# Altium footprint library 31_lib.PcbLib: 3 footprints
Each footprint in its own frame and in the unit in brackets; x right, y up, seen from the top. Pads: shape width x height; smd on the part's side, far side on the other; paste and mask are expansions set on the pad; w line width, h text height; cw(c..) or ccw(c..) is an arc to the next point about the centre after c.
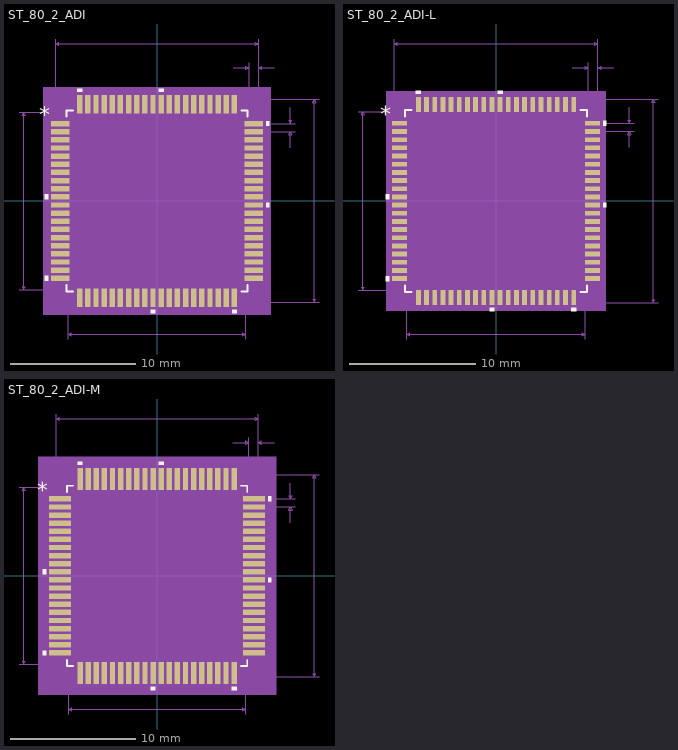
[diagram p0: the footprints below, top view; thin cyan lines are the x and y axes]

## ST_80_2_ADI [mm]
pads (80):
  rect 1.462x0.431 smd paste+0 mask+0: 1(-7.722,6.175) 2(-7.722,5.525) 3(-7.722,4.875) 4(-7.722,4.225) 5(-7.722,3.575) 6(-7.722,2.925) 7(-7.722,2.275) 8(-7.722,1.625) 9(-7.722,0.975) 10(-7.722,0.325) 11(-7.722,-0.325) 12(-7.722,-0.975) 13(-7.722,-1.625) 14(-7.722,-2.275) 15(-7.722,-2.925) 16(-7.722,-3.575) 17(-7.722,-4.225) 18(-7.722,-4.875) 19(-7.722,-5.525) 20(-7.722,-6.175) 41(7.722,-6.175) 42(7.722,-5.525) 43(7.722,-4.875) 44(7.722,-4.225) 45(7.722,-3.575) 46(7.722,-2.925) 47(7.722,-2.275) 48(7.722,-1.625) 49(7.722,-0.975) 50(7.722,-0.325) 51(7.722,0.325) 52(7.722,0.975) 53(7.722,1.625) 54(7.722,2.275) 55(7.722,2.925) 56(7.722,3.575) 57(7.722,4.225) 58(7.722,4.875) 59(7.722,5.525) 60(7.722,6.175)
  rect 0.431x1.462 smd paste+0 mask+0: 21(-6.175,-7.722) 22(-5.525,-7.722) 23(-4.875,-7.722) 24(-4.225,-7.722) 25(-3.575,-7.722) 26(-2.925,-7.722) 27(-2.275,-7.722) 28(-1.625,-7.722) 29(-0.975,-7.722) 30(-0.325,-7.722) 31(0.325,-7.722) 32(0.975,-7.722) 33(1.625,-7.722) 34(2.275,-7.722) 35(2.925,-7.722) 36(3.575,-7.722) 37(4.225,-7.722) 38(4.875,-7.722) 39(5.525,-7.722) 40(6.175,-7.722) 61(6.175,7.722) 62(5.525,7.722) 63(4.875,7.722) 64(4.225,7.722) 65(3.575,7.722) 66(2.925,7.722) 67(2.275,7.722) 68(1.625,7.722) 69(0.975,7.722) 70(0.325,7.722) 71(-0.325,7.722) 72(-0.975,7.722) 73(-1.625,7.722) 74(-2.275,7.722) 75(-2.925,7.722) 76(-3.575,7.722) 77(-4.225,7.722) 78(-4.875,7.722) 79(-5.525,7.722) 80(-6.175,7.722)
Top Overlay:
  region: -8.707,0.516 -8.961,0.516 -8.961,0.135 -8.707,0.135
  region: -8.707,-5.984 -8.961,-5.984 -8.961,-6.365 -8.707,-6.365
  region: -0.135,-8.707 -0.516,-8.707 -0.516,-8.961 -0.135,-8.961
  region: 6.365,-8.707 5.984,-8.707 5.984,-8.961 6.365,-8.961
  region: 8.707,-0.135 8.961,-0.135 8.961,-0.516 8.707,-0.516
  region: 8.707,6.365 8.961,6.365 8.961,5.984 8.707,5.984
  region: 0.516,8.707 0.135,8.707 0.135,8.961 0.516,8.961
  region: -5.984,8.707 -6.365,8.707 -6.365,8.961 -5.984,8.961
  lines w0.152: -7.226,-6.723 -7.226,-7.226 -6.723,-7.226 ; -7.226,6.723 -7.226,7.226 -6.723,7.226 ; 6.723,-7.226 7.226,-7.226 7.226,-6.723 ; 6.723,7.226 7.226,7.226 7.226,6.723
  text "*" at -9.405,6.246 h1.27
Mechanical 5:
  region: 9.088,-9.088 -9.088,-9.088 -9.088,9.088 9.088,9.088
Mechanical 7:
  lines w0.025: -11.024,-7.099 -6.175,-7.099 ; -11.024,7.099 -6.175,7.099 ; -8.103,6.175 -8.103,12.929 ; -7.099,-11.024 -7.099,-6.175 ; 6.071,10.643 7.341,10.643 ; 6.175,-8.103 12.929,-8.103 ; 6.175,8.103 12.929,8.103 ; 7.099,-11.024 7.099,-6.175 ; 7.341,6.175 7.341,11.024 ; 7.722,5.525 11.024,5.525 ; 7.722,6.175 11.024,6.175 ; 8.103,11.024 8.103,6.175 8.103,12.929 ; 9.373,10.643 8.103,10.643 ; 10.643,4.255 10.643,5.525 ; 10.643,7.445 10.643,6.175 ; -10.643,-7.099 -10.643,7.099 ; -10.643,-7.099 -10.77,-6.845 -10.516,-6.845 -10.643,-7.099 ; -10.643,7.099 -10.77,6.845 -10.516,6.845 -10.643,7.099 ; -8.103,12.548 8.103,12.548 ; -8.103,12.548 -7.849,12.675 -7.849,12.421 -8.103,12.548 ; -7.099,-10.643 7.099,-10.643 ; -7.099,-10.643 -6.845,-10.516 -6.845,-10.77 -7.099,-10.643 ; 7.099,-10.643 6.845,-10.516 6.845,-10.77 7.099,-10.643 ; 7.341,10.643 7.087,10.77 7.087,10.516 7.341,10.643 ; 8.103,10.643 8.357,10.77 8.357,10.516 8.103,10.643 ; 8.103,12.548 7.849,12.675 7.849,12.421 8.103,12.548 ; 10.643,5.525 10.516,5.271 10.77,5.271 10.643,5.525 ; 10.643,6.175 10.516,6.429 10.77,6.429 10.643,6.175 ; 12.548,-8.103 12.548,8.103 ; 12.548,-8.103 12.421,-7.849 12.675,-7.849 12.548,-8.103 ; 12.548,8.103 12.421,7.849 12.675,7.849 12.548,8.103
  text "Default Horiz Padstyle: r43_146" at -9.842,-14.453 h1.27
  text "Default Vert Padstyle: r43_146" at -9.525,-15.977 h1.27
  text "Alt 1 Padstyle: b152_229h76" at -8.572,-20.549 h1.27
  text "Alt 2 Padstyle: b229_152h76" at -8.572,-22.073 h1.27
  text "0.026in/0.65mm" at 11.151,5.533 h0.64
  text "0.03in/0.762mm" at 5.499,11.151 h0.64
  text "0.638in/16.205mm" at -2.54,13.056 h0.64
  text "0.559in/14.199mm" at -2.54,-11.786 h0.64
  text "0.559in/14.199mm" at -16.231,-0.318 h0.64
  text "0.638in/16.205mm" at 13.056,-0.318 h0.64
Mechanical 13:
  drawing of 325 lines, arcs and shapes, not listed
  text "*" at -7.036,5.865 h1.27
Mechanical 15:
  region: -6.645,-7.353 -7.353,-7.353 -7.353,-6.645 -8.707,-6.645 -8.707,6.645 -7.353,6.645 -7.353,7.353 -6.645,7.353 -6.645,8.707 6.645,8.707 6.645,7.353 7.353,7.353 7.353,6.645 8.707,6.645 8.707,-6.645 7.353,-6.645 7.353,-7.353 6.645,-7.353 6.645,-8.707 -6.645,-8.707
  lines w0.152: -8.707,-6.645 -7.353,-6.645 -7.353,-7.353 -6.645,-7.353 -6.645,-8.707 6.645,-8.707 6.645,-7.353 7.353,-7.353 7.353,-6.645 8.707,-6.645 8.707,6.645 7.353,6.645 7.353,7.353 6.645,7.353 6.645,8.707 -6.645,8.707 -6.645,7.353 -7.353,7.353 -7.353,6.645 -8.707,6.645 -8.707,-6.645
3D body: height 0.25, standoff 0, extent 0,0 0.254,0.254

## ST_80_2_ADI-L [mm]
pads (80):
  rect 1.162x0.381 smd paste+0 mask+0: 1(-7.672,6.175) 2(-7.672,5.525) 3(-7.672,4.875) 4(-7.672,4.225) 5(-7.672,3.575) 6(-7.672,2.925) 7(-7.672,2.275) 8(-7.672,1.625) 9(-7.672,0.975) 10(-7.672,0.325) 11(-7.672,-0.325) 12(-7.672,-0.975) 13(-7.672,-1.625) 14(-7.672,-2.275) 15(-7.672,-2.925) 16(-7.672,-3.575) 17(-7.672,-4.225) 18(-7.672,-4.875) 19(-7.672,-5.525) 20(-7.672,-6.175) 41(7.672,-6.175) 42(7.672,-5.525) 43(7.672,-4.875) 44(7.672,-4.225) 45(7.672,-3.575) 46(7.672,-2.925) 47(7.672,-2.275) 48(7.672,-1.625) 49(7.672,-0.975) 50(7.672,-0.325) 51(7.672,0.325) 52(7.672,0.975) 53(7.672,1.625) 54(7.672,2.275) 55(7.672,2.925) 56(7.672,3.575) 57(7.672,4.225) 58(7.672,4.875) 59(7.672,5.525) 60(7.672,6.175)
  rect 0.381x1.162 smd paste+0 mask+0: 21(-6.175,-7.672) 22(-5.525,-7.672) 23(-4.875,-7.672) 24(-4.225,-7.672) 25(-3.575,-7.672) 26(-2.925,-7.672) 27(-2.275,-7.672) 28(-1.625,-7.672) 29(-0.975,-7.672) 30(-0.325,-7.672) 31(0.325,-7.672) 32(0.975,-7.672) 33(1.625,-7.672) 34(2.275,-7.672) 35(2.925,-7.672) 36(3.575,-7.672) 37(4.225,-7.672) 38(4.875,-7.672) 39(5.525,-7.672) 40(6.175,-7.672) 61(6.175,7.672) 62(5.525,7.672) 63(4.875,7.672) 64(4.225,7.672) 65(3.575,7.672) 66(2.925,7.672) 67(2.275,7.672) 68(1.625,7.672) 69(0.975,7.672) 70(0.325,7.672) 71(-0.325,7.672) 72(-0.975,7.672) 73(-1.625,7.672) 74(-2.275,7.672) 75(-2.925,7.672) 76(-3.575,7.672) 77(-4.225,7.672) 78(-4.875,7.672) 79(-5.525,7.672) 80(-6.175,7.672)
Top Overlay:
  region: -5.984,8.507 -6.365,8.507 -6.365,8.761 -5.984,8.761
  region: 0.516,8.507 0.135,8.507 0.135,8.761 0.516,8.761
  region: 8.507,6.365 8.761,6.365 8.761,5.984 8.507,5.984
  region: 8.507,-0.135 8.761,-0.135 8.761,-0.516 8.507,-0.516
  region: 6.365,-8.507 5.984,-8.507 5.984,-8.761 6.365,-8.761
  region: -0.135,-8.507 -0.516,-8.507 -0.516,-8.761 -0.135,-8.761
  region: -8.507,-5.984 -8.761,-5.984 -8.761,-6.365 -8.507,-6.365
  region: -8.507,0.516 -8.761,0.516 -8.761,0.135 -8.507,0.135
  lines w0.152: -7.226,-6.698 -7.226,-7.226 -6.698,-7.226 ; -7.226,6.698 -7.226,7.226 -6.698,7.226 ; 6.698,-7.226 7.226,-7.226 7.226,-6.698 ; 6.698,7.226 7.226,7.226 7.226,6.698
  text "*" at -9.205,6.246 h1.27
Mechanical 5:
  region: 8.735,-8.735 -8.735,-8.735 -8.735,8.735 8.735,8.735
Mechanical 7:
  lines w0.025: -10.974,-7.099 -6.175,-7.099 ; -10.974,7.099 -6.175,7.099 ; -8.103,6.175 -8.103,12.879 ; -7.099,-10.974 -7.099,-6.175 ; 6.071,10.593 7.341,10.593 ; 6.175,-8.103 12.879,-8.103 ; 6.175,8.103 12.879,8.103 ; 7.099,-10.974 7.099,-6.175 ; 7.341,6.175 7.341,10.974 ; 7.672,5.525 10.974,5.525 ; 7.672,6.175 10.974,6.175 ; 8.103,10.974 8.103,6.175 8.103,12.879 ; 9.373,10.593 8.103,10.593 ; 10.593,4.255 10.593,5.525 ; 10.593,7.445 10.593,6.175 ; -10.593,-7.099 -10.466,-6.845 -10.72,-6.845 -10.593,-7.099 ; -10.593,-7.099 -10.593,7.099 ; -10.593,7.099 -10.466,6.845 -10.72,6.845 -10.593,7.099 ; -8.103,12.498 -7.849,12.371 -7.849,12.625 -8.103,12.498 ; -8.103,12.498 8.103,12.498 ; -7.099,-10.593 -6.845,-10.72 -6.845,-10.466 -7.099,-10.593 ; -7.099,-10.593 7.099,-10.593 ; 7.099,-10.593 6.845,-10.72 6.845,-10.466 7.099,-10.593 ; 7.341,10.593 7.087,10.466 7.087,10.72 7.341,10.593 ; 8.103,10.593 8.357,10.466 8.357,10.72 8.103,10.593 ; 8.103,12.498 7.849,12.371 7.849,12.625 8.103,12.498 ; 10.593,5.525 10.72,5.271 10.466,5.271 10.593,5.525 ; 10.593,6.175 10.72,6.429 10.466,6.429 10.593,6.175 ; 12.498,-8.103 12.625,-7.849 12.371,-7.849 12.498,-8.103 ; 12.498,-8.103 12.498,8.103 ; 12.498,8.103 12.625,7.849 12.371,7.849 12.498,8.103
  text "0.638in/16.205mm" at 13.006,-0.318 h0.64
  text "0.559in/14.199mm" at -16.181,-0.318 h0.64
  text "0.559in/14.199mm" at -2.54,-11.736 h0.64
  text "0.638in/16.205mm" at -2.54,13.006 h0.64
  text "0.03in/0.762mm" at 5.499,11.101 h0.64
  text "0.026in/0.65mm" at 11.101,5.533 h0.64
  text "Alt 2 Padstyle: b229_152h76" at -8.572,-22.023 h1.27
  text "Alt 1 Padstyle: b152_229h76" at -8.572,-20.499 h1.27
  text "Default Vert Padstyle: r38_116" at -9.525,-15.927 h1.27
  text "Default Horiz Padstyle: r38_116" at -9.842,-14.403 h1.27
Mechanical 13:
  drawing of 325 lines, arcs and shapes, not listed
  text "*" at -7.036,5.865 h1.27
Mechanical 15:
  region: -6.467,-7.201 -7.201,-7.201 -7.201,-6.467 -8.354,-6.467 -8.354,6.467 -7.201,6.467 -7.201,7.201 -6.467,7.201 -6.467,8.354 6.467,8.354 6.467,7.201 7.201,7.201 7.201,6.467 8.354,6.467 8.354,-6.467 7.201,-6.467 7.201,-7.201 6.467,-7.201 6.467,-8.354 -6.467,-8.354
  lines w0.152: -8.354,-6.467 -8.354,6.467 -7.201,6.467 -7.201,7.201 -6.467,7.201 -6.467,8.354 6.467,8.354 6.467,7.201 7.201,7.201 7.201,6.467 8.354,6.467 8.354,-6.467 7.201,-6.467 7.201,-7.201 6.467,-7.201 6.467,-8.354 -6.467,-8.354 -6.467,-7.201 -7.201,-7.201 -7.201,-6.467 -8.354,-6.467
3D body: height 0.25, standoff 0, extent 0,0 0.254,0.254

## ST_80_2_ADI-M [mm]
pads (80):
  rect 1.762x0.431 smd paste+0 mask+0: 1(-7.772,6.175) 2(-7.772,5.525) 3(-7.772,4.875) 4(-7.772,4.225) 5(-7.772,3.575) 6(-7.772,2.925) 7(-7.772,2.275) 8(-7.772,1.625) 9(-7.772,0.975) 10(-7.772,0.325) 11(-7.772,-0.325) 12(-7.772,-0.975) 13(-7.772,-1.625) 14(-7.772,-2.275) 15(-7.772,-2.925) 16(-7.772,-3.575) 17(-7.772,-4.225) 18(-7.772,-4.875) 19(-7.772,-5.525) 20(-7.772,-6.175) 41(7.772,-6.175) 42(7.772,-5.525) 43(7.772,-4.875) 44(7.772,-4.225) 45(7.772,-3.575) 46(7.772,-2.925) 47(7.772,-2.275) 48(7.772,-1.625) 49(7.772,-0.975) 50(7.772,-0.325) 51(7.772,0.325) 52(7.772,0.975) 53(7.772,1.625) 54(7.772,2.275) 55(7.772,2.925) 56(7.772,3.575) 57(7.772,4.225) 58(7.772,4.875) 59(7.772,5.525) 60(7.772,6.175)
  rect 0.431x1.762 smd paste+0 mask+0: 21(-6.175,-7.772) 22(-5.525,-7.772) 23(-4.875,-7.772) 24(-4.225,-7.772) 25(-3.575,-7.772) 26(-2.925,-7.772) 27(-2.275,-7.772) 28(-1.625,-7.772) 29(-0.975,-7.772) 30(-0.325,-7.772) 31(0.325,-7.772) 32(0.975,-7.772) 33(1.625,-7.772) 34(2.275,-7.772) 35(2.925,-7.772) 36(3.575,-7.772) 37(4.225,-7.772) 38(4.875,-7.772) 39(5.525,-7.772) 40(6.175,-7.772) 61(6.175,7.772) 62(5.525,7.772) 63(4.875,7.772) 64(4.225,7.772) 65(3.575,7.772) 66(2.925,7.772) 67(2.275,7.772) 68(1.625,7.772) 69(0.975,7.772) 70(0.325,7.772) 71(-0.325,7.772) 72(-0.975,7.772) 73(-1.625,7.772) 74(-2.275,7.772) 75(-2.925,7.772) 76(-3.575,7.772) 77(-4.225,7.772) 78(-4.875,7.772) 79(-5.525,7.772) 80(-6.175,7.772)
Top Overlay:
  region: -5.984,8.907 -6.365,8.907 -6.365,9.161 -5.984,9.161
  region: 0.516,8.907 0.135,8.907 0.135,9.161 0.516,9.161
  region: 8.907,6.365 9.161,6.365 9.161,5.984 8.907,5.984
  region: 8.907,-0.135 9.161,-0.135 9.161,-0.516 8.907,-0.516
  region: 6.365,-8.907 5.984,-8.907 5.984,-9.161 6.365,-9.161
  region: -0.135,-8.907 -0.516,-8.907 -0.516,-9.161 -0.135,-9.161
  region: -8.907,-5.984 -9.161,-5.984 -9.161,-6.365 -8.907,-6.365
  region: -8.907,0.516 -9.161,0.516 -9.161,0.135 -8.907,0.135
  lines w0.152: -7.226,-6.723 -7.226,-7.226 -6.723,-7.226 ; -7.226,6.723 -7.226,7.226 -6.723,7.226 ; 6.723,-7.226 7.226,-7.226 7.226,-6.723 ; 6.723,7.226 7.226,7.226 7.226,6.723
  text "*" at -9.605,6.246 h1.27
Mechanical 5:
  region: 9.542,-9.542 -9.542,-9.542 -9.542,9.542 9.542,9.542
Mechanical 7:
  lines w0.025: -11.074,-7.099 -6.175,-7.099 ; -11.074,7.099 -6.175,7.099 ; -8.103,6.175 -8.103,12.979 ; -7.099,-11.074 -7.099,-6.175 ; 6.071,10.693 7.341,10.693 ; 6.175,-8.103 12.979,-8.103 ; 6.175,8.103 12.979,8.103 ; 7.099,-11.074 7.099,-6.175 ; 7.341,6.175 7.341,11.074 ; 7.772,5.525 11.074,5.525 ; 7.772,6.175 11.074,6.175 ; 8.103,11.074 8.103,6.175 8.103,12.979 ; 9.373,10.693 8.103,10.693 ; 10.693,4.255 10.693,5.525 ; 10.693,7.445 10.693,6.175 ; -10.693,-7.099 -10.566,-6.845 -10.82,-6.845 -10.693,-7.099 ; -10.693,-7.099 -10.693,7.099 ; -10.693,7.099 -10.566,6.845 -10.82,6.845 -10.693,7.099 ; -8.103,12.598 -7.849,12.471 -7.849,12.725 -8.103,12.598 ; -8.103,12.598 8.103,12.598 ; -7.099,-10.693 -6.845,-10.82 -6.845,-10.566 -7.099,-10.693 ; -7.099,-10.693 7.099,-10.693 ; 7.099,-10.693 6.845,-10.82 6.845,-10.566 7.099,-10.693 ; 7.341,10.693 7.087,10.566 7.087,10.82 7.341,10.693 ; 8.103,10.693 8.357,10.566 8.357,10.82 8.103,10.693 ; 8.103,12.598 7.849,12.471 7.849,12.725 8.103,12.598 ; 10.693,5.525 10.82,5.271 10.566,5.271 10.693,5.525 ; 10.693,6.175 10.82,6.429 10.566,6.429 10.693,6.175 ; 12.598,-8.103 12.725,-7.849 12.471,-7.849 12.598,-8.103 ; 12.598,-8.103 12.598,8.103 ; 12.598,8.103 12.725,7.849 12.471,7.849 12.598,8.103
  text "0.638in/16.205mm" at 13.106,-0.318 h0.64
  text "0.559in/14.199mm" at -16.281,-0.318 h0.64
  text "0.559in/14.199mm" at -2.54,-11.836 h0.64
  text "0.638in/16.205mm" at -2.54,13.106 h0.64
  text "0.03in/0.762mm" at 5.499,11.201 h0.64
  text "0.026in/0.65mm" at 11.201,5.533 h0.64
  text "Alt 2 Padstyle: b229_152h76" at -8.572,-22.123 h1.27
  text "Alt 1 Padstyle: b152_229h76" at -8.572,-20.599 h1.27
  text "Default Vert Padstyle: r43_176" at -9.525,-16.027 h1.27
  text "Default Horiz Padstyle: r43_176" at -9.842,-14.503 h1.27
Mechanical 13:
  drawing of 325 lines, arcs and shapes, not listed
  text "*" at -7.036,5.865 h1.27
Mechanical 15:
  region: -6.899,-7.607 -7.607,-7.607 -7.607,-6.899 -9.161,-6.899 -9.161,6.899 -7.607,6.899 -7.607,7.607 -6.899,7.607 -6.899,9.161 6.899,9.161 6.899,7.607 7.607,7.607 7.607,6.899 9.161,6.899 9.161,-6.899 7.607,-6.899 7.607,-7.607 6.899,-7.607 6.899,-9.161 -6.899,-9.161
  lines w0.152: -9.161,-6.899 -9.161,6.899 -7.607,6.899 -7.607,7.607 -6.899,7.607 -6.899,9.161 6.899,9.161 6.899,7.607 7.607,7.607 7.607,6.899 9.161,6.899 9.161,-6.899 7.607,-6.899 7.607,-7.607 6.899,-7.607 6.899,-9.161 -6.899,-9.161 -6.899,-7.607 -7.607,-7.607 -7.607,-6.899 -9.161,-6.899
3D body: height 0.25, standoff 0, extent 0,0 0.254,0.254